# EAGLE library part PH-15 (library con-jst)
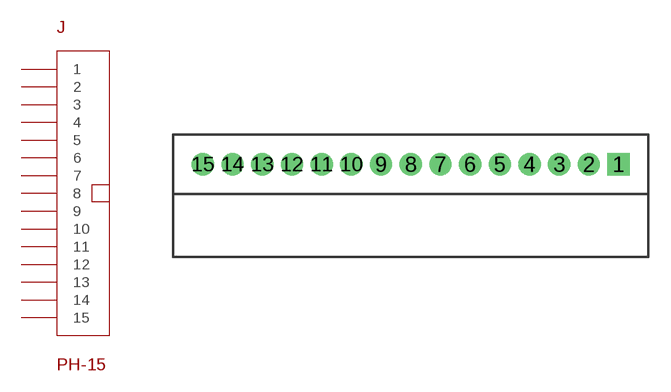
[diagram p22: symbol with the pads of PH-15; footprint PH-15]

Designator prefix J

## PH-15  [PH-15]
1  1
2  2
3  3
4  4
5  5
6  6
7  7
8  8
9  9
10  10
11  11
12  12
13  13
14  14
15  15

## Footprint PH-15 (pad centres in mm)
drill 0.85 pad 1.5 square: 1 28,0
drill 0.85 pad 1.5: 2 26,0; 3 24,0; 4 22,0; 5 20,0; 6 18,0; 7 16,0; 8 14,0; 9 12,0; 10 10,0; 11 8,0; 12 6,0; 13 4,0; 14 2,0; 15 0,0